# EAGLE library part ESP32-WROVER-B (library devkit)
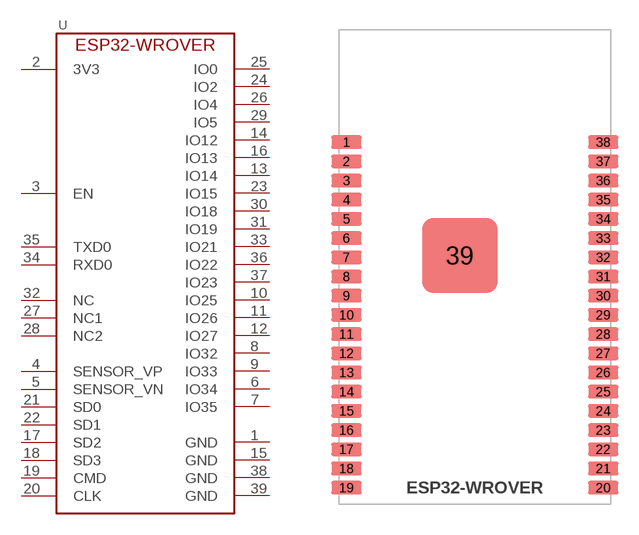
[diagram p2: symbol with the pads of ESP32-WROVER-B; footprint ESP32-WROVER-B]

Designator prefix U

## ESP32-WROVER-B  [ESP32-WROVER-B]
1  GND
2  3V3
3  EN
4  SENSOR_VP
5  SENSOR_VN
6  IO34
7  IO35
8  IO32
9  IO33
10  IO25
11  IO26
12  IO27
13  IO14
14  IO12
15  GND
16  IO13
17  SD2
18  SD3
19  CMD
20  CLK
21  SD0
22  SD1
23  IO15
24  IO2
25  IO0
26  IO4
27  NC1
28  NC2
29  IO5
30  IO18
31  IO19
32  NC
33  IO21
34  RXD0
35  TXD0
36  IO22
37  IO23
38  GND
39  GND

## Footprint ESP32-WROVER-B (pad centres in mm)
smd 2 x 0.9: 1 -8.5,8.26; 2 -8.5,6.99; 3 -8.5,5.72; 4 -8.5,4.45; 5 -8.5,3.18; 6 -8.5,1.91; 7 -8.5,0.64; 8 -8.5,-0.63; 9 -8.5,-1.9; 10 -8.5,-3.17; 11 -8.5,-4.44; 12 -8.5,-5.71; 13 -8.5,-6.98; 14 -8.5,-8.25; 15 -8.5,-9.52; 16 -8.5,-10.79; 17 -8.5,-12.06; 18 -8.5,-13.33; 19 -8.5,-14.6; 20 8.5,-14.6; 21 8.5,-13.33; 22 8.5,-12.06; 23 8.5,-10.79; 24 8.5,-9.52; 25 8.5,-8.25; 26 8.5,-6.98; 27 8.5,-5.71; 28 8.5,-4.44; 29 8.5,-3.17; 30 8.5,-1.9; 31 8.5,-0.63; 32 8.5,0.64; 33 8.5,1.91; 34 8.5,3.18; 35 8.5,4.45; 36 8.5,5.72; 37 8.5,6.99; 38 8.5,8.26
smd 5 x 5: 39 -1,0.76